# Altium footprint library footprints.PcbLib: 17 footprints (part 2 of 2)
Each footprint in its own frame and in the unit in brackets; x right, y up, seen from the top. Pads: shape width x height; smd on the part's side, far side on the other; paste and mask are expansions set on the pad; w line width, h text height; cw(c..) or ccw(c..) is an arc to the next point about the centre after c.
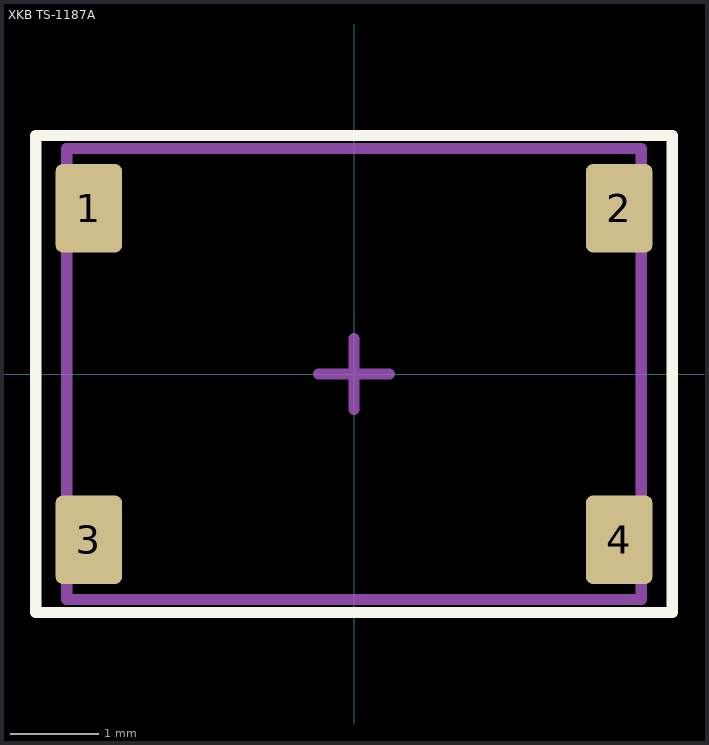
[diagram p1: the footprint, top view; thin cyan lines are the x and y axes]

## XKB TS-1187A [mm] "TACTILE SWITCH"
height 4
pads (4):
  rrect20% 0.75x1 smd: 1(-3,1.875) 2(3,1.875) 3(-3,-1.875) 4(3,-1.875)
Top Overlay:
  lines w0.127: -3.6,-2.7 -3.6,2.7 3.6,2.7 3.6,-2.7 -3.6,-2.7
Top Assembly:
  lines w0.127: -0.4,0 0.4,0 ; 0,-0.4 0,0.4 ; -3.25,-2.55 3.25,-2.55 3.25,2.55 -3.25,2.55 -3.25,-2.55
3D body "ts-1187a-x-e-x.stp": height 2.5, standoff 0, extent -3.25,-2.55 3.25,2.55